# EAGLE library part CY8CKIT-059 (library robot-hand)
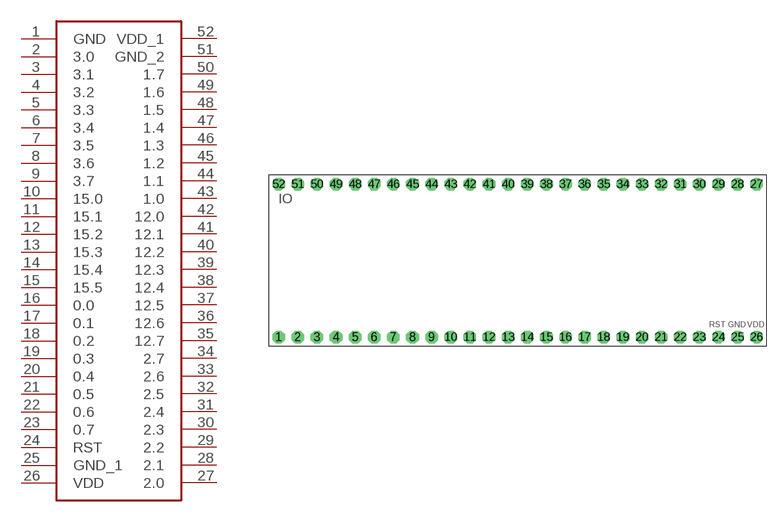
[diagram p6: symbol with the pads of CY8CKIT-059; footprint CY8CKIT-059]

Designator prefix -

## CY8CKIT-059  [CY8CKIT-059]
1  GND
2  3.0
3  3.1
4  3.2
5  3.3
6  3.4
7  3.5
8  3.6
9  3.7
10  15.0
11  15.1
12  15.2
13  15.3
14  15.4
15  15.5
16  0.0
17  0.1
18  0.2
19  0.3
20  0.4
21  0.5
22  0.6
23  0.7
24  RST
25  GND_1
26  VDD
27  2.0
28  2.1
29  2.2
30  2.3
31  2.4
32  2.5
33  2.6
34  2.7
35  12.7
36  12.6
37  12.5
38  12.4
39  12.3
40  12.2
41  12.1
42  12.0
43  1.0
44  1.1
45  1.2
46  1.3
47  1.4
48  1.5
49  1.6
50  1.7
51  GND_2
52  VDD_1

## Footprint CY8CKIT-059 (pad centres in mm)
drill 1 pad 1.676 octagon: 1 0,0; 2 2.54,0; 3 5.08,0; 4 7.62,0; 5 10.16,0; 6 12.7,0; 7 15.24,0; 8 17.78,0; 9 20.32,0; 10 22.86,0; 11 25.4,0; 12 27.94,0; 13 30.48,0; 14 33.02,0; 15 35.56,0; 16 38.1,0; 17 40.64,0; 18 43.18,0; 19 45.72,0; 20 48.26,0; 21 50.8,0; 22 53.34,0; 23 55.88,0; 24 58.42,0; 25 60.96,0; 26 63.5,0; 27 63.5,20.32; 28 60.96,20.32; 29 58.42,20.32; 30 55.88,20.32; 31 53.34,20.32; 32 50.8,20.32; 33 48.26,20.32; 34 45.72,20.32; 35 43.18,20.32; 36 40.64,20.32; 37 38.1,20.32; 38 35.56,20.32; 39 33.02,20.32; 40 30.48,20.32; 41 27.94,20.32; 42 25.4,20.32; 43 22.86,20.32; 44 20.32,20.32; 45 17.78,20.32; 46 15.24,20.32; 47 12.7,20.32; 48 10.16,20.32; 49 7.62,20.32; 50 5.08,20.32; 51 2.54,20.32; 52 0,20.32